# EAGLE library part AD9913 (library VNA)
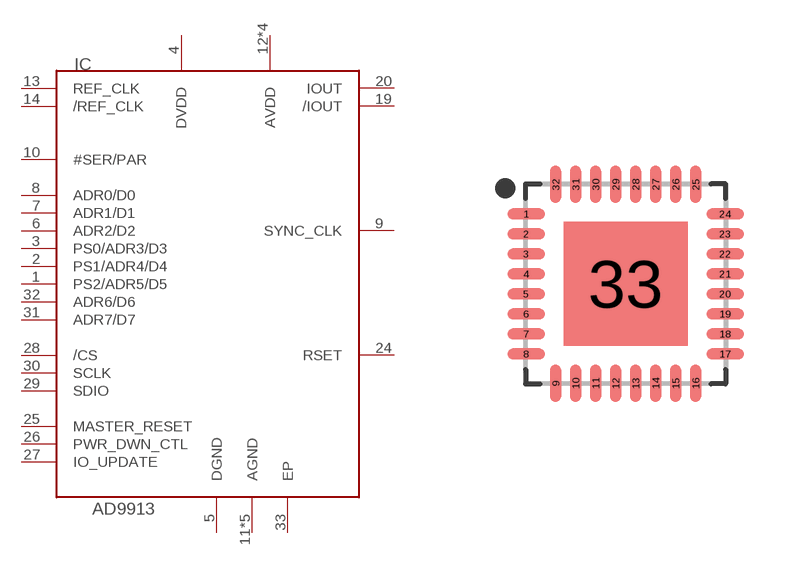
[diagram p20: symbol with the pads of QFN50P500X500X80-33T310; footprint QFN50P500X500X80-33T310]

Designator prefix IC

## AD9913  [QFN50P500X500X80-33T310]
1  PS2/ADR5/D5
2  PS1/ADR4/D4
3  PS0/ADR3/D3
4  DVDD  pwr
5  DGND  pwr
6  ADR2/D2
7  ADR1/D1
8  ADR0/D0
9  SYNC_CLK  out
10  #SER/PAR  in
11  AGND  pwr
12  AVDD  pwr
13  REF_CLK  in
14  /REF_CLK  in
15  AGND  pwr
16  AVDD  pwr
17  AVDD  pwr
18  AGND  pwr
19  /IOUT  out
20  IOUT  out
21  AGND  pwr
22  AVDD  pwr
23  AGND  pwr
24  RSET  in
25  MASTER_RESET  in
26  PWR_DWN_CTL  in
27  IO_UPDATE  in
28  /CS  in
29  SDIO
30  SCLK  in
31  ADR7/D7
32  ADR6/D6
33  EP  pwr

## Footprint QFN50P500X500X80-33T310 (pad centres in mm)
32-QFN, 0.50 mm pitch, 5.00 X 5.00 X 0.80 mm body, 3.10 X 3.10 mm thermal pad 32-pin QFN package with 0.50 mm pitch with body size 5.00 X 5.00 X 0.80 mm and thermal pad size 3.10 X 3.10 mm
smd 0.937 x 0.27: 1 -2.487,1.75; 2 -2.487,1.25; 3 -2.487,0.75; 4 -2.487,0.25; 5 -2.487,-0.25; 6 -2.487,-0.75; 7 -2.487,-1.25; 8 -2.487,-1.75; 17 2.487,-1.75; 18 2.487,-1.25; 19 2.487,-0.75; 20 2.487,-0.25; 21 2.487,0.25; 22 2.487,0.75; 23 2.487,1.25; 24 2.487,1.75
smd 0.27 x 0.937: 9 -1.75,-2.487; 10 -1.25,-2.487; 11 -0.75,-2.487; 12 -0.25,-2.487; 13 0.25,-2.487; 14 0.75,-2.487; 15 1.25,-2.487; 16 1.75,-2.487; 25 1.75,2.487; 26 1.25,2.487; 27 0.75,2.487; 28 0.25,2.487; 29 -0.25,2.487; 30 -0.75,2.487; 31 -1.25,2.487; 32 -1.75,2.487
smd 3.1 x 3.1: 33 0,0